# EAGLE library part LM339 (library ieee_rec)
DIP 14 Package
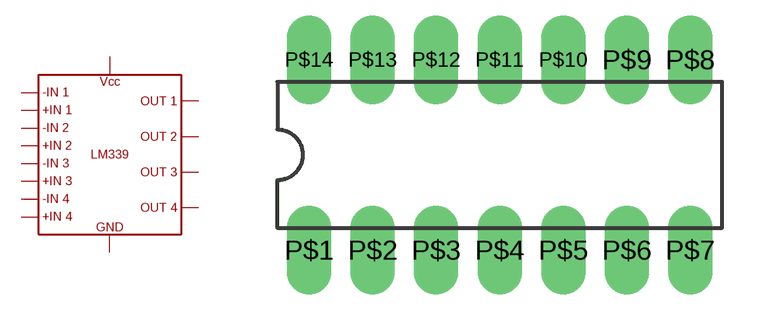
[diagram p0: symbol with the pads of DIL14; footprint DIL14]

Designator prefix -

## LM339  [DIL14]
P$1  P1
P$2  P2
P$3  P3
P$4  P4
P$5  P5
P$6  P6
P$7  P7
P$8  P8
P$9  P9
P$10  P10
P$11  P11
P$12  P12
P$13  P13
P$14  P14

## Footprint DIL14 (pad centres in mm)
Dual In Line Package
drill 0.9 pad 1.778 long: P$1 -7.62,-3.81; P$2 -5.08,-3.81; P$3 -2.54,-3.81; P$4 0,-3.81; P$5 2.54,-3.81; P$6 5.08,-3.81; P$7 7.62,-3.81; P$8 7.62,3.81; P$9 5.08,3.81; P$10 2.54,3.81; P$11 0,3.81; P$12 -2.54,3.81; P$13 -5.08,3.81; P$14 -7.62,3.81